# EAGLE library part Т34ВГ1 (library Т43ВГ1)
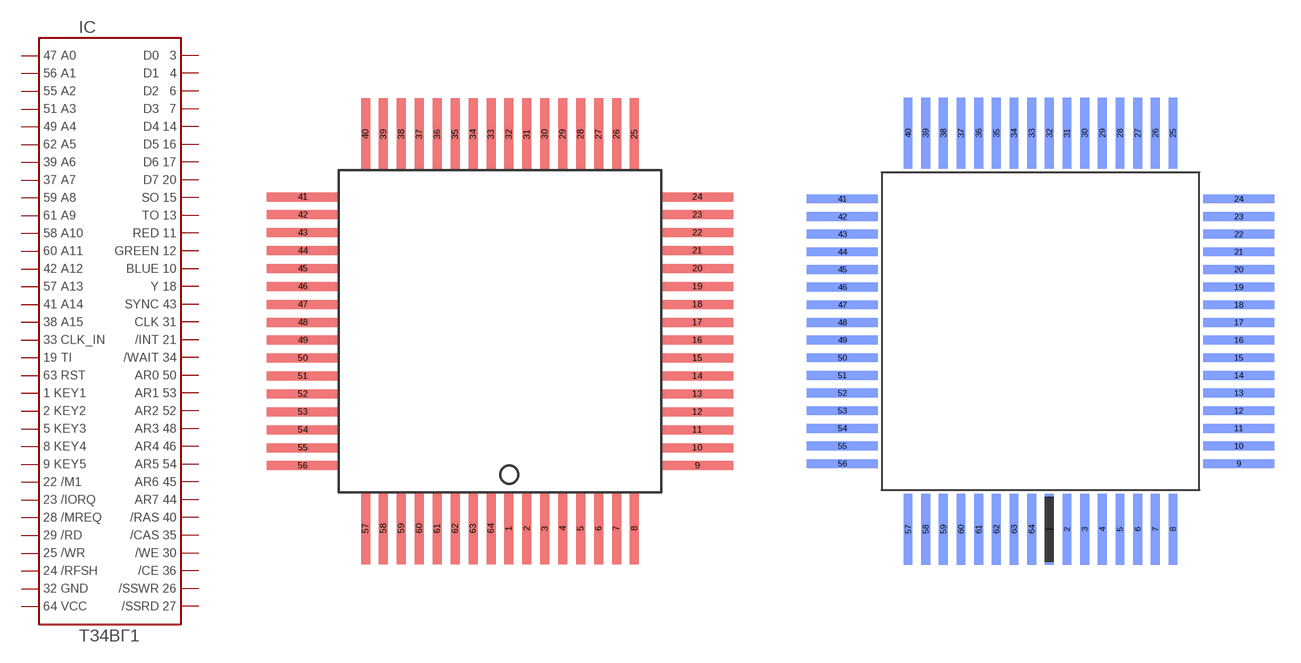
[diagram p0: symbol with the pads of TQFP64; footprints TQFP64, TQFP64-MF]

Designator prefix IC

## Т34ВГ1_  [TQFP64]
1  1  pas
2  2  pas
3  3  pas
4  4  pas
5  5  pas
6  6  pas
7  7  pas
8  8  pas
9  9  pas
10  10  pas
11  11  pas
12  12  pas
13  13  pas
14  14  pas
15  15  pas
16  16  pas
17  17  pas
18  18  pas
19  19  pas
20  20  pas
21  21  pas
22  22  pas
23  23  pas
24  24  pas
25  25  pas
26  26  pas
27  27  pas
28  28  pas
29  29  pas
30  30  pas
31  31  pas
32  32  pas
33  33  pas
34  34  pas
35  35  pas
36  36  pas
37  37  pas
38  38  pas
39  39  pas
40  40  pas
41  41  pas
42  42  pas
43  43  pas
44  44  pas
45  45  pas
46  46  pas
47  47  pas
48  48  pas
49  49  pas
50  50  pas
51  51  pas
52  52  pas
53  53  pas
54  54  pas
55  55  pas
56  56  pas
57  57  pas
58  58  pas
59  59  pas
60  60  pas
61  61  pas
62  62  pas
63  63  pas
64  64  pas

## Т34ВГ1MF  [TQFP64-MF]
Pads as for TQFP64

## Footprint TQFP64 (pad centres in mm)
Thin Plasic Quad Flat Package Updated from atml.lbr 17.01.2005 alf@cadsoft.de
smd 0.5 x 4: 1 0.5,-11; 2 1.5,-11; 3 2.5,-11; 4 3.5,-11; 5 4.5,-11; 6 5.5,-11; 7 6.5,-11; 8 7.5,-11; 25 7.5,11; 26 6.5,11; 27 5.5,11; 28 4.5,11; 29 3.5,11; 30 2.5,11; 31 1.5,11; 32 0.5,11; 33 -0.5,11; 34 -1.5,11; 35 -2.5,11; 36 -3.5,11; 37 -4.5,11; 38 -5.5,11; 39 -6.5,11; 40 -7.5,11; 57 -7.5,-11; 58 -6.5,-11; 59 -5.5,-11; 60 -4.5,-11; 61 -3.5,-11; 62 -2.5,-11; 63 -1.5,-11; 64 -0.5,-11
smd 4 x 0.5: 9 11,-7.5; 10 11,-6.5; 11 11,-5.5; 12 11,-4.5; 13 11,-3.5; 14 11,-2.5; 15 11,-1.5; 16 11,-0.5; 17 11,0.5; 18 11,1.5; 19 11,2.5; 20 11,3.5; 21 11,4.5; 22 11,5.5; 23 11,6.5; 24 11,7.5; 41 -11,7.5; 42 -11,6.5; 43 -11,5.5; 44 -11,4.5; 45 -11,3.5; 46 -11,2.5; 47 -11,1.5; 48 -11,0.5; 49 -11,-0.5; 50 -11,-1.5; 51 -11,-2.5; 52 -11,-3.5; 53 -11,-4.5; 54 -11,-5.5; 55 -11,-6.5; 56 -11,-7.5

## Footprint TQFP64-MF (pad centres in mm)
Thin Plasic Quad Flat Package Updated from atml.lbr 17.01.2005 alf@cadsoft.de
smd 0.5 x 4 bottom: 1 0.5,-11.225; 2 1.5,-11.225; 3 2.5,-11.225; 4 3.5,-11.225; 5 4.5,-11.225; 6 5.5,-11.225; 7 6.5,-11.225; 8 7.5,-11.225; 25 7.5,11.225; 26 6.5,11.225; 27 5.5,11.225; 28 4.5,11.225; 29 3.5,11.225; 30 2.5,11.225; 31 1.5,11.225; 32 0.5,11.225; 33 -0.5,11.225; 34 -1.5,11.225; 35 -2.5,11.225; 36 -3.5,11.225; 37 -4.5,11.225; 38 -5.5,11.225; 39 -6.5,11.225; 40 -7.5,11.225; 57 -7.5,-11.225; 58 -6.5,-11.225; 59 -5.5,-11.225; 60 -4.5,-11.225; 61 -3.5,-11.225; 62 -2.5,-11.225; 63 -1.5,-11.225; 64 -0.5,-11.225
smd 4 x 0.5 bottom: 9 11.225,-7.5; 10 11.225,-6.5; 11 11.225,-5.5; 12 11.225,-4.5; 13 11.225,-3.5; 14 11.225,-2.5; 15 11.225,-1.5; 16 11.225,-0.5; 17 11.225,0.5; 18 11.225,1.5; 19 11.225,2.5; 20 11.225,3.5; 21 11.225,4.5; 22 11.225,5.5; 23 11.225,6.5; 24 11.225,7.5; 41 -11.225,7.5; 42 -11.225,6.5; 43 -11.225,5.5; 44 -11.225,4.5; 45 -11.225,3.5; 46 -11.225,2.5; 47 -11.225,1.5; 48 -11.225,0.5; 49 -11.225,-0.5; 50 -11.225,-1.5; 51 -11.225,-2.5; 52 -11.225,-3.5; 53 -11.225,-4.5; 54 -11.225,-5.5; 55 -11.225,-6.5; 56 -11.225,-7.5